# Altium schematic symbol library Cards.SchLib: 11 symbols
Pins are listed as number, name and electrical type; pins without a type are passive.

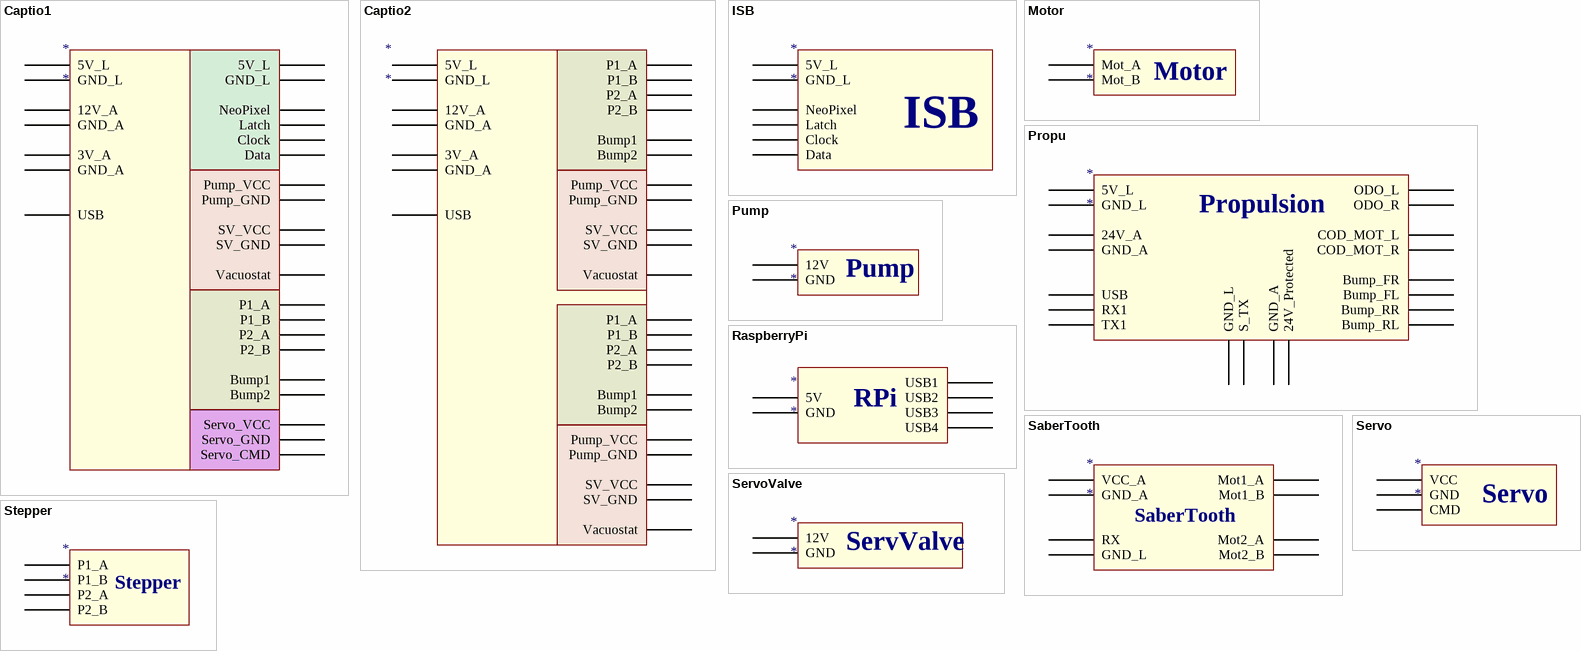
[diagram p0: symbols Captio1 to Stepper]

## Captio1
designator *
pins: 35 5V_L, 36 GND_L, 37 NeoPixel, 38 Latch, 39 Clock, 40 Data, 80 5V_L, 80 12V_A, 80 3V_A, 81 GND_L, 81 GND_A, 81 GND_A, 82 USB, 83 Pump_VCC, 83 P1_A, 84 Pump_GND, 84 P1_B, 85 SV_VCC, 85 P2_A, 86 SV_GND, 86 Vacuostat, 86 P2_B, 86 Bump1, 86 Bump2, 86 Servo_VCC, 86 Servo_GND, 86 Servo_CMD

## Captio2
designator *
pins: 80 5V_L, 80 12V_A, 80 3V_A, 81 GND_L, 81 GND_A, 81 GND_A, 82 USB, 83 Pump_VCC, 83 P1_A, 83 Pump_VCC, 83 P1_A, 84 Pump_GND, 84 P1_B, 84 Pump_GND, 84 P1_B, 85 SV_VCC, 85 P2_A, 85 SV_VCC, 85 P2_A, 86 SV_GND, 86 Vacuostat, 86 P2_B, 86 Bump1, 86 Bump2, 86 SV_GND, 86 Vacuostat, 86 P2_B, 86 Bump1, 86 Bump2

## ISB
designator *
pins: 35 5V_L, 36 GND_L, 37 NeoPixel, 38 Latch, 39 Clock, 40 Data

## Motor
designator *
pins: 64 Mot_B, 65 Mot_A

## Propu
designator *
pins: 43 5V_L, 44 GND_L, 45 24V_A, 46 GND_A, 47 USB, 49 24V_Protected, 50 GND_A, 52 S_TX, 53 GND_L, 54 ODO_L, 55 ODO_R, 56 COD_MOT_L, 57 COD_MOT_R, 58 Bump_FR, 59 Bump_FL, 60 RX1, 61 TX1, 62 Bump_RR, 63 Bump_RL
text: Propulsion

## Pump
designator *
pins: 41 12V, 42 GND

## RaspberryPi
designator *
pins: 74 5V, 75 GND, 76 USB1, 77 USB2, 78 USB3, 79 USB4
text: RPi

## SaberTooth
designator *
pins: 66 VCC_A, 67 GND_A, 68 RX, 69 GND_L, 70 Mot1_A, 71 Mot1_B, 72 Mot2_A, 73 Mot2_B

## Servo
designator *
pins: 91 VCC, 92 GND, 93 CMD

## ServoValve
designator *
pins: 41 12V, 42 GND
text: ServValve

## Stepper
designator *
pins: 87 P1_A, 88 P1_B, 89 P2_A, 90 P2_B